# Altium schematic symbol library Buck converters & Regulators.SchLib: 8 symbols
Pins are listed as number, name and electrical type; pins without a type are passive.

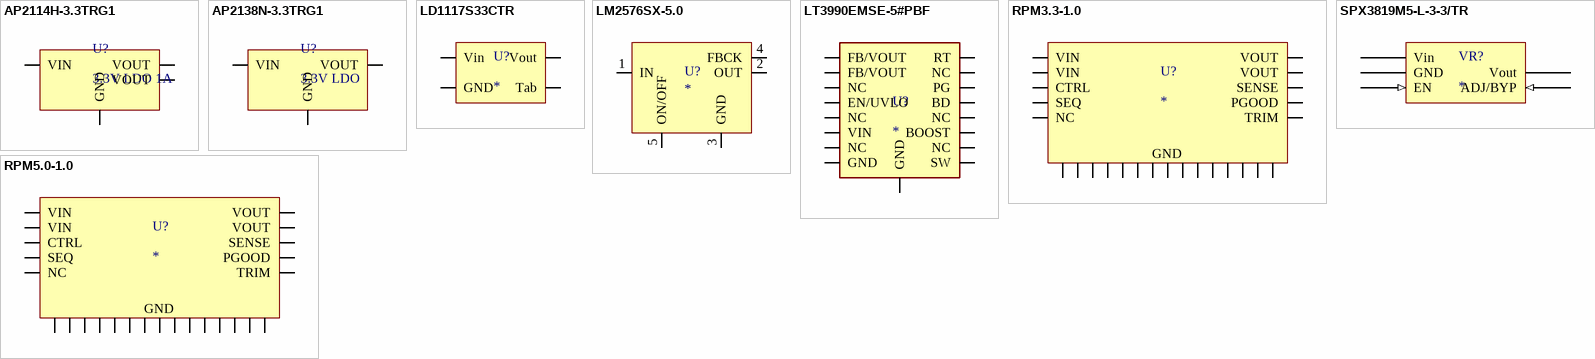
[diagram p0: symbols AP2114H-3.3TRG1 to SPX3819M5-L-3-3/TR]

## AP2114H-3.3TRG1
designator U?, comment 3.3V LDO 1A
AP2114 Series 3.3 V Fixed Output 1 A LDO Regulator with Enable - SOT-223; Manufacturer: Diodes; Manufacturer Part Number: AP2114H-3.3TRG1; Number of Regulators: 1; Polarity: Positive; Quiescent Current: 65uA; Accuracy: 1.5%; Min Input Voltage: 2.5V; Max Input Voltage: 6V; Dropout Voltage: 450mV; Power Supply Rejection Ratio (PSRR): 65dB; Supplier 1: Digi-Key; Supplier Part Number 1: AP2114H-3.3TRG1DICT-ND; RoHS: Yes; Category: Voltage Regulators - Linear; Stock 1: 24450; Mount: Surface Mount; Case/Package: SOT-223; Number of Pins: 3; Weight: 0.000282oz; Min Operating Temperature: -40°C; Max Operating Temperature: 85°C; Max Output Current: 1A; Output Current: 1A; Packaging: Tape and Reel; Number of Outputs: 1; Output Voltage: 3.3V; Package Quantity: 4000; Output Type: Fixed; Length: 6.7mm; Height: 1.7mm; Width: 3.7mm; Lead Free: Lead Free; ComponentLink1URL: https://datasheet.ciiva.com/29569/ap2114-29569881.pdf?src-supplier=Digi-Key; ComponentLink1Description: https://datasheet.ciiva.com/29569/ap2114-29569881.pdf?src-supplier=Digi-Key; ComponentLink2URL: https://datasheet.ciiva.com/29569/ap2114-29569882.pdf?src-supplier=Digi-Key; ComponentLink2Description: https://datasheet.ciiva.com/29569/ap2114-29569882.pdf?src-supplier=Digi-Key; ComponentLink3URL: https://datasheet.ciiva.com/29569/ap2114-29569883.pdf?src-supplier=Digi-Key; ComponentLink3Description: https://datasheet.ciiva.com/29569/ap2114-29569883.pdf?src-supplier=Digi-Key
footprint SOT-223
pins: 1 GND, 2 VOUT, 3 VIN, 4 VOUT

## AP2138N-3.3TRG1
designator U?, comment 3.3V LDO
IC REG LINEAR 3.3V 250MA SOT23-3; Manufacturer: Diodes; Manufacturer Part Number: AP2138N-3.3TRG1; Number of Regulators: 1; Quiescent Current: 1uA; Accuracy: 2%; Polarity: Positive; Output Type: Fixed; Min Input Voltage: 2.5V; Max Input Voltage: 6.6V; Dropout Voltage: 400mV; Supplier 1: Digi-Key; Supplier Part Number 1: AP2138N-3.3TRG1DICT-ND; RoHS: Yes; Category: Voltage Regulators - Linear; Stock 1: 148471; Mount: Surface Mount; Case/Package: SOT-23-3; Number of Pins: 3; Weight: 0.000282oz; Min Operating Temperature: -40°C; Max Operating Temperature: 85°C; Output Current: 250mA; Max Output Current: 250mA; Packaging: Tape and Reel; Number of Outputs: 1; Output Voltage: 3.3V; Package Quantity: 3000; Length: 3.02mm; Height: 1.3mm; Width: 1.7mm; Lead Free: Lead Free; ComponentLink1URL: https://datasheet.ciiva.com/29568/ap2138-9-29568816.pdf?src-supplier=Digi-Key; ComponentLink1Description: https://datasheet.ciiva.com/29568/ap2138-9-29568816.pdf?src-supplier=Digi-Key; ComponentLink2URL: https://datasheet.ciiva.com/30016/ap2138-9-30016777.pdf?src-supplier=Avnet; ComponentLink2Description: https://datasheet.ciiva.com/30016/ap2138-9-30016777.pdf?src-supplier=Avnet; ComponentLink3URL: https://datasheet.ciiva.com/29569/ap2138-9-29569023.pdf?src-supplier=Digi-Key; ComponentLink3Description: https://datasheet.ciiva.com/29569/ap2138-9-29569023.pdf?src-supplier=Digi-Key; ComponentLink4URL: https://datasheet.ciiva.com/29569/ap2138-9-29569022.pdf?src-supplier=Digi-Key; ComponentLink4Description: https://datasheet.ciiva.com/29569/ap2138-9-29569022.pdf?src-supplier=Digi-Key
footprint SOT-23-3
pins: 1 GND, 2 VOUT, 3 VIN

## LD1117S33CTR
designator U?
IC REG LINEAR 3.3V 800MA SOT223; Manufacturer 1: STMicroelectronics; Manufacturer Part Number 1: LD1117S33CTR; Number of Outputs: 1; Output Current: 950mA; Min Input Voltage: 5.3V; Dropout Voltage: 1.1V; Max Output Current: 1.3A; Max Input Voltage: 15V; Max Power Dissipation: 12W; Input Bias Current: 5mA; Polarity: Positive; Quiescent Current: 10mA; Accuracy: 1%; Output Type: Fixed; Supplier 1: Digi-Key; Stock 1: 43439; Pricing 1: 1=0.41000, 10=0.35100, 100=0.26180, 500=0.20570, 1000=0.15895 (USD); RoHS: Yes; Mount: Surface Mount; Case/Package: SOT-223; Number of Pins: 4; Weight: 0.01lb; Number of Terminals: 4; Contact Plating: Tin,Matte; Min Operating Temperature: -40°C; Max Operating Temperature: 125°C; Output Voltage: 3.3V; Packaging: Tape and Reel; Nominal Output Voltage: 3.3V; Package Quantity: 1; Max Supply Voltage: 15V; Min Supply Voltage: 3.3V; Number of Regulators: 1; Min Output Voltage: 3.3V; Power Dissipation: 12W; Max Output Voltage: 3.3V; Termination: SMD/SMT; Output Voltage Accuracy: 1%; Length: 6.5mm; Height: 1.8mm; Width: 3.5mm; Radiation Hardening: No; REACH SVHC: No SVHC; Lead Free: Lead Free; ComponentLink1URL: https://datasheet.ciiva.com/19480/1390223-19480586.pdf?src-supplier=Jameco; ComponentLink1Description: https://datasheet.ciiva.com/19480/1390223-19480586.pdf?src-supplier=Jameco; ComponentLink2URL: https://datasheet.ciiva.com/1511/1776449-1511572.pdf?src-supplier=Element14; ComponentLink2Description: https://datasheet.ciiva.com/1511/1776449-1511572.pdf?src-supplier=Element14; ComponentLink3URL: https://datasheet.ciiva.com/16392/cd00000544-16392069.pdf?src-supplier=Future+Electronics; ComponentLink3Description: https://datasheet.ciiva.com/16392/cd00000544-16392069.pdf?src-supplier=Future+Electronics; ComponentLink4URL: https://datasheet.ciiva.com/2041/cd00000544-2041932.pdf?src-supplier=Digi-Key; ComponentLink4Description: https://datasheet.ciiva.com/2041/cd00000544-2041932.pdf?src-supplier=Digi-Key; ComponentLink5URL: https://datasheet.ciiva.com/7992/1776449-7992620.pdf?src-supplier=Element14; ComponentLink5Description: https://datasheet.ciiva.com/7992/1776449-7992620.pdf?src-supplier=Element14; ComponentLink6URL: https://datasheet.ciiva.com/2041/cd00000544-2041933.pdf?src-supplier=Digi-Key; ComponentLink6Description: https://datasheet.ciiva.com/2041/cd00000544-2041933.pdf?src-supplier=Digi-Key; ComponentLink7URL: https://datasheet.ciiva.com/2041/cd00000544-2041934.pdf?src-supplier=Digi-Key; ComponentLink7Description: https://datasheet.ciiva.com/2041/cd00000544-2041934.pdf?src-supplier=Digi-Key; Supplier Part Number 1: 497-1241-1-ND
footprint SOT-223
pins: 1 GND, 2 Vout, 3 Vin, 4 Tab

## LM2576SX-5.0
designator U?
IC REG BUCK 5V 3A TO263-5; Supplier 1: Digi-Key; Supplier Part Number 1: LM2576SX-5.0/NOPBCT-ND
footprint TO263-5
pins: 1 IN, 2 OUT, 3 GND, 4 FBCK, 5 ON/OFF, 6 TAB hidden

## LT3990EMSE-5#PBF
designator U?
LINEAR TECHNOLOGY - LT3990EMSE-5#PBF - BUCK, 62VIN, 2.2MHZ, 0.35A, 5V; Manufacturer: Analog Devices / Linear Technology; Switching Frequency: 2.3MHz; Synchronous Rectifier: No; Min Input Voltage: 4.2V; Output Current: 350mA; Output Type: Fixed; Output Configuration: Positive; Max Input Voltage: 62V; Number of Outputs: 1; Supplier 1: Digi-Key; Supplier Part Number 1: LT3990EMSE-5#PBF-ND; Manufacturer Part Number: LT3990EMSE-5#PBF; RoHS: Yes; Category: Voltage Regulators - Switching; Stock 1: 1281; Number of Pins: 16; Min Operating Temperature: -40°C; Max Operating Temperature: 125°C; Min Output Voltage: 5V; Output Voltage: 5V; Nominal Output Voltage: 5V; Packaging: Rail/Tube; REACH SVHC: No SVHC; ComponentLink1URL: https://datasheet.ciiva.com/6192/1668811-6192780.pdf?src-supplier=Farnell; ComponentLink1Description: https://datasheet.ciiva.com/6192/1668811-6192780.pdf?src-supplier=Farnell
footprint 16-MSOP-THERM
pins: 1 FB/VOUT, 2 FB/VOUT, 3 NC, 4 EN/UVLO, 5 NC, 6 VIN, 7 NC, 8 GND, 9 SW, 10 NC, 11 BOOST, 12 NC, 13 BD, 14 PG, 15 NC, 16 RT, 17 GND

## RPM3.3-1.0
designator U?
1A DC/DC-CONVERTER INNOLINE SM; Manufacturer: Recom; Manufacturer Part Number: RPM3.3-1.0; Supplier 1: Digi-Key; Supplier Part Number 1: 945-3249-1-ND; RoHS: No; Stock 1: 319; ComponentLink1URL: https://www.recom-power.com/pdf/Innoline/RPM-1.0.pdf?src-supplier=Digi-Key; ComponentLink1Description: https://www.recom-power.com/pdf/Innoline/RPM-1.0.pdf?src-supplier=Digi-Key
footprint 25-BLGA
pins: A1 VIN, A2 VIN, A3 GND, A4 GND, A5 VOUT, B1 GND, B2 GND, B3 GND, B4 GND, B5 VOUT, C1 CTRL, C2 GND, C3 GND, C4 GND, C5 SENSE, D1 PGOOD, D2 GND, D3 GND, D4 GND, D5 GND, E1 SEQ, E2 NC, E3 GND, E4 GND, E5 TRIM

## RPM5.0-1.0
designator U?
1A DC/DC-CONVERTER INNOLINE SM; Manufacturer: Recom; Manufacturer Part Number: RPM5.0-1.0; Supplier 1: Digi-Key; Supplier Part Number 1: 945-3250-1-ND; RoHS: No; Stock 1: 175; ComponentLink1URL: https://www.recom-power.com/pdf/Innoline/RPM-1.0.pdf?src-supplier=Digi-Key; ComponentLink1Description: https://www.recom-power.com/pdf/Innoline/RPM-1.0.pdf?src-supplier=Digi-Key
footprint 25-BLGA
pins: A1 VIN, A2 VIN, A3 GND, A4 GND, A5 VOUT, B1 GND, B2 GND, B3 GND, B4 GND, B5 VOUT, C1 CTRL, C2 GND, C3 GND, C4 GND, C5 SENSE, D1 PGOOD, D2 GND, D3 GND, D4 GND, D5 GND, E1 SEQ, E2 NC, E3 GND, E4 GND, E5 TRIM

## SPX3819M5-L-3-3/TR
designator VR?
IC REG LINEAR 3.3V 500MA SOT23-5; Manufacturer 1: Exar; Manufacturer Part Number 1: SPX3819M5-L-3-3/TR; Dropout Voltage: 340mV; Number of Outputs: 1; Min Input Voltage: 2.5V; Max Input Voltage: 16V; Polarity: Positive; Quiescent Current: 3uA; Accuracy: 1%; Output Type: Fixed; Supplier 1: Digi-Key; Stock 1: 34948; Pricing 1: 1=0.52000, 10=0.44100, 25=0.41160, 100=0.32930, 250=0.30576, 500=0.25872, 1000=0.19992 (USD); RoHS: Yes; Mount: Surface Mount; Case/Package: SOT-23-5; Number of Pins: 5; Min Operating Temperature: -40°C; Max Operating Temperature: 125°C; Output Voltage: 3.3V; Packaging: Tape and Reel; Output Current: 500mA; Max Output Current: 500mA; Number of Regulators: 1; Min Output Voltage: 3.3V; Output Voltage Accuracy: 1%; Length: 2.9mm; Height: 1.3mm; Width: 1.6mm; Radiation Hardening: No; Lead Free: Lead Free; ComponentLink1URL: https://datasheet.ciiva.com/6594/spx3819-ds-r202-052014-6594086.pdf?src-supplier=Digi-Key; ComponentLink1Description: https://datasheet.ciiva.com/6594/spx3819-ds-r202-052014-6594086.pdf?src-supplier=Digi-Key; ComponentLink2URL: https://datasheet.ciiva.com/16291/spx3819-series-16291548.pdf?src-supplier=Future+Electronics; ComponentLink2Description: https://datasheet.ciiva.com/16291/spx3819-series-16291548.pdf?src-supplier=Future+Electronics; Supplier Part Number 1: 1016-1873-1-ND
footprint SPX3819M5-L-3-3/TR (IC REG LINEAR 3.3V 500MA SOT23-5)
pins: 1 Vin (power), 2 GND (power), 3 EN (in), 4 ADJ/BYP (in), 5 Vout (power)